# Altium integrated library W25Q32JVZPIQ.IntLib: 1 symbol
Pins are listed as number, name and electrical type; pins without a type are passive.

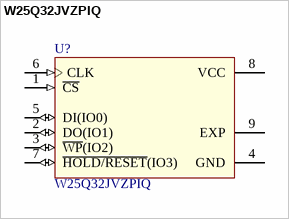
[diagram p0: symbol W25Q32JVZPIQ]

## W25Q32JVZPIQ
designator U?
Serial Flash Memory With Dual, Quad Spi / Manufacturer PN: W25Q32JVZPIQ; MF: Winbond; SnapEDA_Link: https://www.snapeda.com/parts/W25Q32JVZPIQ/Winbond%20Electronics/view-part/?ref=snap; Digi-Key_Purchase_URL: https://www.digikey.com/product-detail/en/winbond-electronics/W25Q32JVZPIQ/W25Q32JVZPIQ-ND/6167525?utm_source=snapeda&utm_medium=aggregator&utm_campaign=symbol; MP: W25Q32JVZPIQ; Digi-Key_Part_Number: W25Q32JVZPIQ-ND; Package: WSON-8 Winbond; Value: *
footprint *SON127P600X500X80-9N
pins: 1 ~{CS} (in), 2 DO(IO1) (io), 3 ~{WP}(IO2) (io), 4 GND (power), 5 DI(IO0) (io), 6 CLK (in), 7 ~{HOLD/RESET}(IO3) (io), 8 VCC (power), 9 EXP